# EAGLE library part LPC822M101JHI33E (library teatotler)
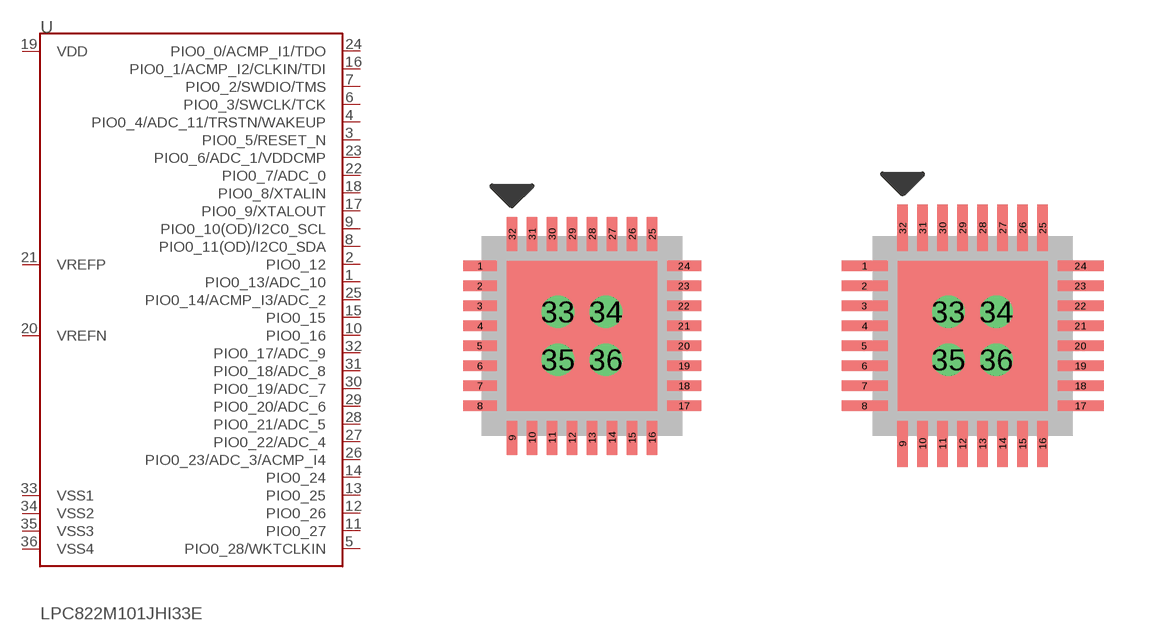
[diagram p1: symbol with the pads of LPC82X_VQFN33; footprints LPC82X_VQFN33, LPC82X_VQFN33_HAND_SOLDER]

Designator prefix U

## LPC822M101JHI33E (COST_X1: 1.54; COST_X10: 1.383; COST_X100: 1.1119; COST_X500: 0.9135; DESCRIPTION: Microcontroller, Cortex M0+, 4 kB SRAM, 16 kB Flash, 30 MHz; DISPLAY: Cortex M0+; DISTRIBUTOR: Digikey; DIST_PART_NO: 568-11571-ND; MFG: NXP; MFG_PART_NO: LPC822M101JHI33E; PACKAGE: HVQFN33 5x5)  [LPC82X_VQFN33]
1  PIO0_13/ADC_10
2  PIO0_12
3  PIO0_5/RESET_N
4  PIO0_4/ADC_11/TRSTN/WAKEUP
5  PIO0_28/WKTCLKIN
6  PIO0_3/SWCLK/TCK
7  PIO0_2/SWDIO/TMS
8  PIO0_11(OD)/I2C0_SDA
9  PIO0_10(OD)/I2C0_SCL
10  PIO0_16
11  PIO0_27
12  PIO0_26
13  PIO0_25
14  PIO0_24
15  PIO0_15
16  PIO0_1/ACMP_I2/CLKIN/TDI
17  PIO0_9/XTALOUT
18  PIO0_8/XTALIN
19  VDD
20  VREFN
21  VREFP
22  PIO0_7/ADC_0
23  PIO0_6/ADC_1/VDDCMP
24  PIO0_0/ACMP_I1/TDO
25  PIO0_14/ACMP_I3/ADC_2
26  PIO0_23/ADC_3/ACMP_I4
27  PIO0_22/ADC_4
28  PIO0_21/ADC_5
29  PIO0_20/ADC_6
30  PIO0_19/ADC_7
31  PIO0_18/ADC_8
32  PIO0_17/ADC_9
33  VSS1
34  VSS2
35  VSS3
36  VSS4

## LPC822M101JHI33ELPC82X_VQFN33_HAND_SOLDER (COST_X1: 1.54; COST_X10: 1.383; COST_X100: 1.1119; COST_X500: 0.9135; DESCRIPTION: Microcontroller, Cortex M0+, 4 kB SRAM, 16 kB Flash, 30 MHz; DISPLAY: Cortex M0+; DISTRIBUTOR: Digikey; DIST_PART_NO: 568-11571-ND; MFG: NXP; MFG_PART_NO: LPC822M101JHI33E; PACKAGE: HVQFN33 5x5)  [LPC82X_VQFN33_HAND_SOLDER]
Pads as for LPC82X_VQFN33

## Footprint LPC82X_VQFN33 (pad centres in mm)
smd 0.85 x 0.27: 1 -2.55,1.75; 2 -2.55,1.25; 3 -2.55,0.75; 4 -2.55,0.25; 5 -2.55,-0.25; 6 -2.55,-0.75; 7 -2.55,-1.25; 8 -2.55,-1.75; 17 2.55,-1.75; 18 2.55,-1.25; 19 2.55,-0.75; 20 2.55,-0.25; 21 2.55,0.25; 22 2.55,0.75; 23 2.55,1.25; 24 2.55,1.75
smd 0.27 x 0.85: 9 -1.75,-2.55; 10 -1.25,-2.55; 11 -0.75,-2.55; 12 -0.25,-2.55; 13 0.25,-2.55; 14 0.75,-2.55; 15 1.25,-2.55; 16 1.75,-2.55; 25 1.75,2.55; 26 1.25,2.55; 27 0.75,2.55; 28 0.25,2.55; 29 -0.25,2.55; 30 -0.75,2.55; 31 -1.25,2.55; 32 -1.75,2.55
drill 0.3 pad 0.6: 33 -0.6,0.6; 34 0.6,0.6; 35 -0.6,-0.6; 36 0.6,-0.6

## Footprint LPC82X_VQFN33_HAND_SOLDER (pad centres in mm)
smd 1.15 x 0.27: 1 -2.7,1.75; 2 -2.7,1.25; 3 -2.7,0.75; 4 -2.7,0.25; 5 -2.7,-0.25; 6 -2.7,-0.75; 7 -2.7,-1.25; 8 -2.7,-1.75; 17 2.7,-1.75; 18 2.7,-1.25; 19 2.7,-0.75; 20 2.7,-0.25; 21 2.7,0.25; 22 2.7,0.75; 23 2.7,1.25; 24 2.7,1.75
smd 0.27 x 1.15: 9 -1.75,-2.7; 10 -1.25,-2.7; 11 -0.75,-2.7; 12 -0.25,-2.7; 13 0.25,-2.7; 14 0.75,-2.7; 15 1.25,-2.7; 16 1.75,-2.7; 25 1.75,2.7; 26 1.25,2.7; 27 0.75,2.7; 28 0.25,2.7; 29 -0.25,2.7; 30 -0.75,2.7; 31 -1.25,2.7; 32 -1.75,2.7
drill 0.3 pad 0.6: 33 -0.6,0.6; 34 0.6,0.6; 35 -0.6,-0.6; 36 0.6,-0.6